# EAGLE library part PCF8575C (library pcf8575c)
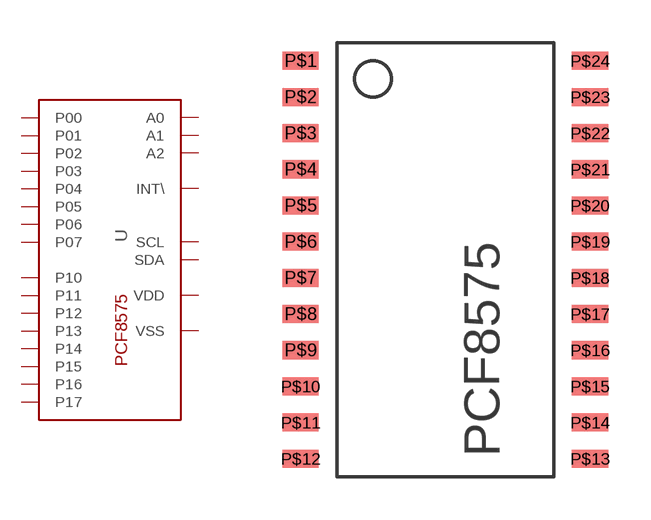
[diagram p0: symbol with the pads of SOP24; footprint SOP24]

Designator prefix -

## PCF8575C  [SOP24]
P$1  INT\  oc
P$2  A1  in
P$3  A2  in
P$4  P00
P$5  P01
P$6  P02
P$7  P03
P$8  P04
P$9  P05
P$10  P06
P$11  P07
P$12  VSS  pwr
P$13  P10
P$14  P11
P$15  P12
P$16  P13
P$17  P14
P$18  P15
P$19  P16
P$20  P17
P$21  A0  in
P$22  SCL  in
P$23  SDA
P$24  VDD  pwr

## Footprint SOP24 (pad centres in mm)
smd 1.27 x 0.635: P$1 -1.27,14.605; P$2 -1.27,13.335; P$3 -1.27,12.065; P$4 -1.27,10.795; P$5 -1.27,9.525; P$6 -1.27,8.255; P$7 -1.27,6.985; P$8 -1.27,5.715; P$9 -1.27,4.445; P$10 -1.27,3.175; P$11 -1.27,1.905; P$12 -1.27,0.635; P$13 8.89,0.635; P$14 8.89,1.905; P$15 8.89,3.175; P$16 8.89,4.445; P$17 8.89,5.715; P$18 8.89,6.985; P$19 8.89,8.255; P$20 8.89,9.525; P$21 8.89,10.795; P$22 8.89,12.065; P$23 8.89,13.335; P$24 8.89,14.605